# Altium footprint library PCB - LEADED - SOP - CYPRESS SSOP-28 210MIL.PCBLIB: 1 footprints
Each footprint in its own frame and in the unit in brackets; x right, y up, seen from the top. Pads: shape width x height; smd on the part's side, far side on the other; paste and mask are expansions set on the pad; w line width, h text height; cw(c..) or ccw(c..) is an arc to the next point about the centre after c.
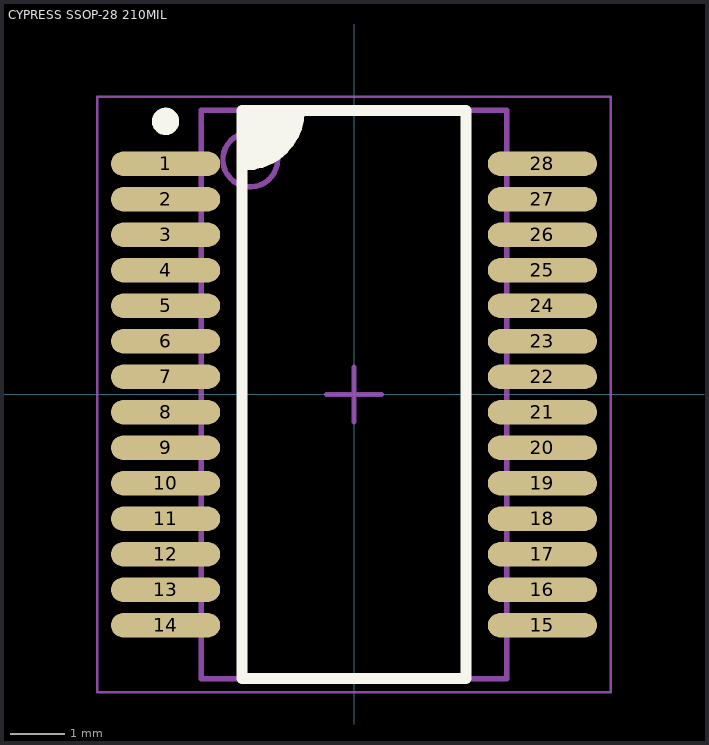
[diagram p0: the footprint, top view; thin cyan lines are the x and y axes]

## CYPRESS SSOP-28 210MIL [mm] "SOP, 28-Leads, Body 10.2x5.3mm, Pitch 0.65mm, IPC Medium Density"
height 2
pads (28):
  oval 2x0.45 smd: 1(-3.45,4.225) 2(-3.45,3.575) 3(-3.45,2.925) 4(-3.45,2.275) 5(-3.45,1.625) 6(-3.45,0.975) 7(-3.45,0.325) 8(-3.45,-0.325) 9(-3.45,-0.975) 10(-3.45,-1.625) 11(-3.45,-2.275) 12(-3.45,-2.925) 13(-3.45,-3.575) 14(-3.45,-4.225) 15(3.45,-4.225) 16(3.45,-3.575) 17(3.45,-2.925) 18(3.45,-2.275) 19(3.45,-1.625) 20(3.45,-0.975) 21(3.45,-0.325) 22(3.45,0.325) 23(3.45,0.975) 24(3.45,1.625) 25(3.45,2.275) 26(3.45,2.925) 27(3.45,3.575) 28(3.45,4.225)
Top Overlay:
  circle w0.25: c-3.45,5 r0.125
  region: -2.05,5.2 -2.05,4.2 -1.6,4.2 -1,4.8 -1,5.2
  lines w0.2: -2.05,4.2 -2,4.2 ccw(c-2,5.2) -1,5.2 ; -2.05,-5.2 2.05,-5.2 2.05,5.2 -2.05,5.2 -2.05,-5.2
Mechanical 13:
  circle w0.1: c-1.9,4.3 r0.5
  lines w0.1: -2.8,-5.2 -2.8,5.2 2.8,5.2 2.8,-5.2 -2.8,-5.2
Mechanical 15:
  lines w0.05: -4.7,-5.45 -4.7,5.45 4.7,5.45 4.7,-5.45 -4.7,-5.45
Mechanical 2 (Mech9):
  lines w0.1: -0.5,0 0.5,0 ; 0,-0.5 0,0.5
3D body "SSOP-28-TI-DB.STEP": height 1.97, standoff 0, extent -3.91,-5.1 3.911,5.1